# Altium schematic symbol library SCH - POWER - CHARGER - ANALOG LTC4012.SCHLIB: 1 symbol
Pins are listed as number, name and electrical type; pins without a type are passive.

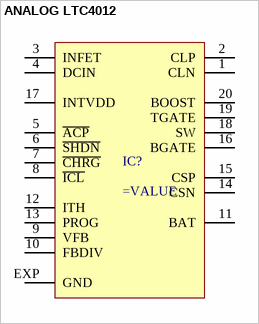
[diagram p0: symbol ANALOG LTC4012]

## ANALOG LTC4012
designator IC?
pins: 1 CLN, 2 CLP, 3 INFET, 4 DCIN, 5 ~{ACP}, 6 ~{SHDN}, 7 ~{CHRG}, 8 ~{ICL}, 9 VFB, 10 FBDIV, 11 BAT, 12 ITH, 13 PROG, 14 CSN, 15 CSP, 16 BGATE, 17 INTVDD, 18 SW, 19 TGATE, 20 BOOST, EXP GND